# Altium footprint library rcl_PTH.PCBLIB: 348 footprints (part 21 of 22)
Each footprint in its own frame and in the unit in brackets; x right, y up, seen from the top. Pads: shape width x height; smd on the part's side, far side on the other; paste and mask are expansions set on the pad; w line width, h text height; cw(c..) or ccw(c..) is an arc to the next point about the centre after c.
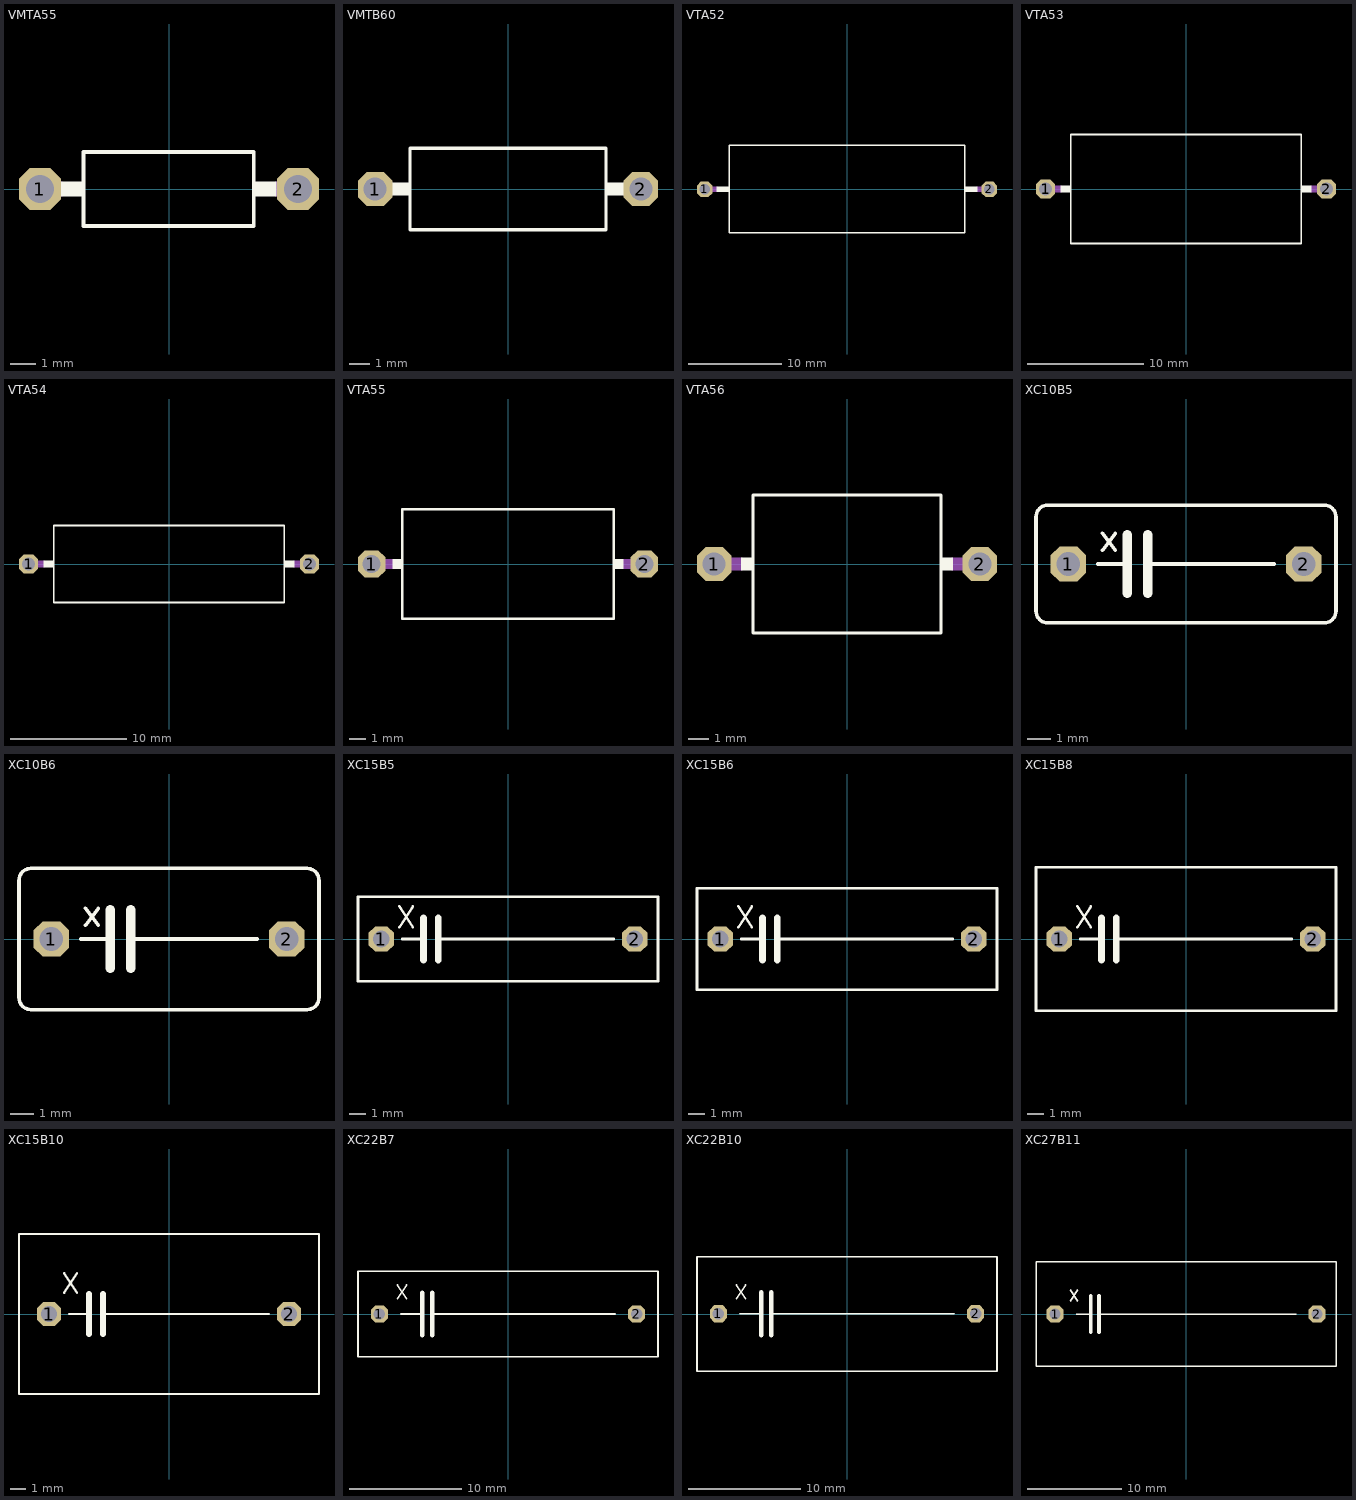
[diagram p20: the footprints below, top view; thin cyan lines are the x and y axes]

## VMTA55 [mil]
pads (2):
  oct 64.97x64.97 hole 43.31: 1(-200,0) 2(200,0)
Top Overlay:
  rectangle: -167.72,-12 -130.22,12
  rectangle: 129.23,-12 166.73,12
  lines w6: -132.38,-57.09 -132.38,57.09 131.4,57.09 131.4,-57.09 -132.38,-57.09
Mechanical 16:
  lines w24: -200,0 -167.72,0 ; 166.73,0 200,0

## VMTB60 [mil]
pads (2):
  oct 64.97x64.97 hole 43.31: 1(-250,0) 2(250,0)
Top Overlay:
  rectangle: 182.38,-12 219.88,12
  rectangle: -219.88,-12 -182.38,12
  lines w6: -184.55,-76.77 184.55,-76.77 184.55,76.77 -184.55,76.77 -184.55,-76.77
Mechanical 16:
  lines w24: -250,0 -219.88,0 ; 219.88,0 250,0

## VTA52 [mil]
pads (2):
  oct 64.97x64.97 hole 43.31: 1(-600,0) 2(600,0)
Top Overlay:
  rectangle: -550,-12 -494.78,12
  rectangle: 494.78,-12 550,12
  lines w6: -496.95,-183.07 -496.95,0.98 -496.95,186.02 496.95,186.02 496.95,0.98 496.95,-183.07 -496.95,-183.07
Mechanical 16:
  lines w24: -600,0 -550,0 ; 550,0 600,0

## VTA53 [mil]
pads (2):
  oct 64.97x64.97 hole 43.31: 1(-475,0) 2(475,0)
Top Overlay:
  rectangle: 387.5,-12 425,12
  rectangle: -425,-12 -387.5,12
  lines w6: -389.67,-184.06 389.67,-184.06 389.67,0 389.67,185.04 -389.67,185.04 -389.67,0 -389.67,-184.06
Mechanical 16:
  lines w24: -475,0 -425,0 ; 425,0 475,0

## VTA54 [mil]
pads (2):
  oct 64.97x64.97 hole 43.31: 1(-475,0) 2(475,0)
Top Overlay:
  rectangle: 387.5,-12 425,12
  rectangle: -425,-12 -387.5,12
  lines w6: -389.67,-129.92 389.67,-129.92 389.67,0 389.67,129.92 -389.67,129.92 -389.67,0 -389.67,-129.92
Mechanical 16:
  lines w24: -475,0 -425,0 ; 425,0 475,0

## VTA55 [mil]
pads (2):
  oct 64.97x64.97 hole 43.31: 1(-325,0) 2(325,0)
Top Overlay:
  rectangle: 250,-12 275,12
  rectangle: -275,-12 -250,12
  lines w6: -252.17,-129.92 252.17,-129.92 252.17,0 252.17,129.92 -252.17,129.92 -252.17,0 -252.17,-129.92
Mechanical 16:
  lines w24: -325,0 -275,0 ; 275,0 325,0

## VTA56 [mil]
pads (2):
  oct 64.97x64.97 hole 43.31: 1(-250,0) 2(250,0)
Top Overlay:
  rectangle: 175,-12 200,12
  rectangle: -200,-12 -175,12
  lines w6: -177.17,-129.92 177.17,-129.92 177.17,0 177.17,129.92 -177.17,129.92 -177.17,0 -177.17,-129.92
Mechanical 16:
  lines w24: -250,0 -200,0 ; 200,0 250,0

## XC10B5 [mil]
pads (2):
  oct 60x60 hole 40: 1(-200,0) 2(200,0)
Top Overlay:
  lines w6: -150,0 -100,0 ; -142,23 -120,52 ; -142,52 -120,23 ; -65,0 150,0 ; -255,-80 ccw(c-235,-80) -235,-100 235,-100 ccw(c235,-80) 255,-80 255,80 ccw(c235,80) 235,100 -235,100 ccw(c-235,80) -255,80 -255,-80
  lines w16: -100,-50 -100,0 -100,50 ; -65,-50 -65,0 -65,50

## XC10B6 [mil]
pads (2):
  oct 60x60 hole 40: 1(-200,0) 2(200,0)
Top Overlay:
  lines w6: -150,0 -100,0 ; -142,23 -120,52 ; -142,52 -120,23 ; -65,0 150,0 ; -255,-100 ccw(c-235,-100) -235,-120 235,-120 ccw(c235,-100) 255,-100 255,100 ccw(c235,100) 235,120 -235,120 ccw(c-235,100) -255,100 -255,-100
  lines w16: -100,-50 -100,0 -100,50 ; -65,-50 -65,0 -65,50

## XC15B5 [mil]
pads (2):
  oct 60x60 hole 40: 1(-300,0) 2(300,0)
Top Overlay:
  lines w6: -257,28 -225,77 ; -257,77 -225,28 ; -250,0 -200,0 ; -165,0 250,0 ; -355,-100 -355,100 355,100 355,-100 -355,-100
  lines w16: -200,-50 -200,0 -200,50 ; -165,-50 -165,0 -165,50

## XC15B6 [mil]
pads (2):
  oct 60x60 hole 40: 1(-300,0) 2(300,0)
Top Overlay:
  lines w6: -257,28 -225,77 ; -257,77 -225,28 ; -250,0 -200,0 ; -165,0 250,0 ; -355,-120 -355,120 355,120 355,-120 -355,-120
  lines w16: -200,-50 -200,0 -200,50 ; -165,-50 -165,0 -165,50

## XC15B8 [mil]
pads (2):
  oct 60x60 hole 40: 1(-300,0) 2(300,0)
Top Overlay:
  lines w6: -257,28 -225,77 ; -257,77 -225,28 ; -250,0 -200,0 ; -165,0 250,0 ; -355,-170 -355,170 355,170 355,-170 -355,-170
  lines w16: -200,-50 -200,0 -200,50 ; -165,-50 -165,0 -165,50

## XC15B10 [mil]
pads (2):
  oct 60x60 hole 40: 1(-300,0) 2(300,0)
Top Overlay:
  lines w6: -262,53 -230,102 ; -262,102 -230,53 ; -250,0 -200,0 ; -165,0 250,0 ; -375,-200 -375,200 375,200 375,-200 -375,-200
  lines w16: -200,-50 -200,0 -200,50 ; -165,-50 -165,0 -165,50

## XC22B7 [mil]
pads (2):
  oct 60x60 hole 40: 1(-450,0) 2(450,0)
Top Overlay:
  lines w6: -387,53 -355,102 ; -387,102 -355,53 ; -375,0 -300,0 ; -265,0 375,0 ; -525,-150 -525,150 525,150 525,-150 -525,-150
  lines w16: -300,-75 -300,0 -300,75 ; -265,-75 -265,0 -265,75

## XC22B10 [mil]
pads (2):
  oct 60x60 hole 40: 1(-450,1) 2(450,1)
Top Overlay:
  lines w6: -387,53 -355,102 ; -387,102 -355,53 ; -375,1 -300,1 ; -265,1 375,1 ; -525,-200 -525,200 525,200 525,-200 -525,-200
  lines w16: -300,-74 -300,1 -300,76 ; -265,-74 -265,1 -265,76

## XC27B11 [mil]
pads (2):
  oct 70.5x70.5 hole 47: 1(-550,0) 2(550,0)
Top Overlay:
  lines w6: -487,53 -455,102 ; -487,102 -455,53 ; -462,0 -400,0 ; -365,0 462,0 ; -630,-220 -630,220 630,220 630,-220 -630,-220
  lines w16: -400,-75 -400,0 -400,75 ; -365,-75 -365,0 -365,75